# Altium footprint library DecadeBox.PcbLib: 4 footprints
Each footprint in its own frame and in the unit in brackets; x right, y up, seen from the top. Pads: shape width x height; smd on the part's side, far side on the other; paste and mask are expansions set on the pad; w line width, h text height; cw(c..) or ccw(c..) is an arc to the next point about the centre after c.
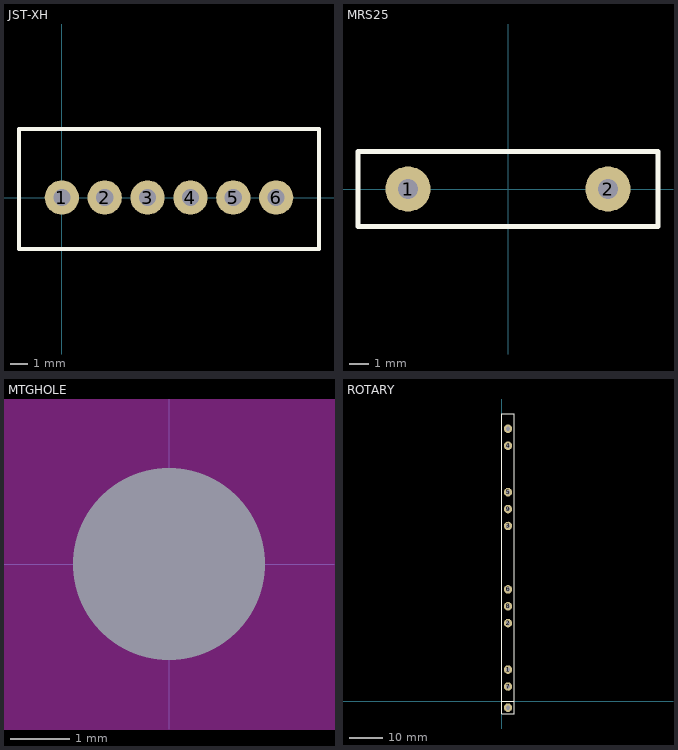
[diagram p0: the footprints below, top view; thin cyan lines are the x and y axes]

## JST-XH [mm]
pads (6):
  round 2 hole 1: 1(0,0) 2(2.5,0) 3(5,0) 4(7.5,0) 5(10,0) 6(12.5,0)
Top Overlay:
  lines w0.254: -2.5,-3 -2.5,4 15,4 15,-3 -2.5,-3

## MRS25 [mil] "VISHAY"
pads (2):
  round 90 hole 40: 1(-200,0) 2(200,0)
Top Overlay:
  lines w10: -300,-75 -300,75 300,75 300,-75 -300,-75
3D body: height 98.43, standoff 0, extent -127.95,-49.21 127.95,49.21

## MTGHOLE [mil]
pads (1):
  round 0 hole 128 unplated mask+125: 0(0,0)
Keep-Out Layer:
  circle w200: c0,0 r100

## ROTARY [mil]
pads (11):
  round 100 hole 50: 1(75,375) 2(75,925) 3(75,2075) 4(75,3025) 5(75,2475) 6(75,1325) 7(75,175) 8(75,1125) 9(75,2275) 10(75,3225) 11(75,-75)
Top Overlay:
  lines w10: 0,0 150,0 ; 0,-150 0,3400 150,3400 150,-150 0,-150